# EAGLE library part AD8676ARMZ (library AD8676ARMZ)
Dual Rail-to-Rail Output Op Amp Check availability <https://pricing.snapeda.com/parts/AD8676ARMZ/Analog%20Devices/view-part?ref=eda>
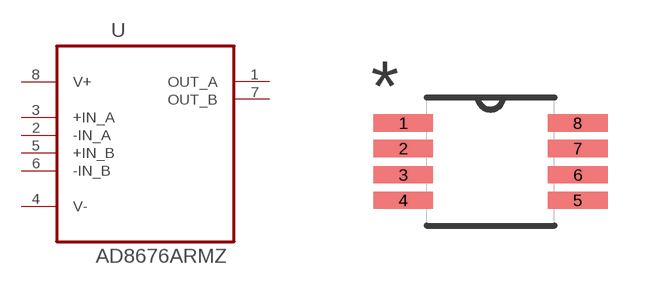
[diagram p0: symbol with the pads of SOP65P490X110-8N; footprint SOP65P490X110-8N]

Designator prefix U

## AD8676ARMZ (Availability: In Stock; Check_prices: https://www.snapeda.com/parts/AD8676ARMZ/Analog+Devices/view-part/?ref=eda; Description: Ultra Precision, 36 V, 2.8 nV/√Hz Dual RRO Op Amp; MF: Analog Devices; MP: AD8676ARMZ; Package: MSOP-8 Analog Devices; Price: None; Purchase-URL: https://www.snapeda.com/api/url_track_click_mouser/?unipart_id=599467&manufacturer=Analog Devices&part_name=AD8676ARMZ&search_term=ad8676; SnapEDA_Link: https://www.snapeda.com/parts/AD8676ARMZ/Analog+Devices/view-part/?ref=snap)  [SOP65P490X110-8N]
1  OUT_A  out
2  -IN_A  in
3  +IN_A  in
4  V-  pwr
5  +IN_B  in
6  -IN_B  in
7  OUT_B  out
8  V+  pwr

## Footprint SOP65P490X110-8N (pad centres in mm)
smd 1.499 x 0.432: 1 -2.184,0.965; 2 -2.184,0.33; 3 -2.184,-0.33; 4 -2.184,-0.965; 5 2.184,-0.965; 6 2.184,-0.33; 7 2.184,0.33; 8 2.184,0.965